# EAGLE library part MIC23451 (library pandaLight)
high-efficiency, 3 MHz, triple 2A, synchronous buck regulator
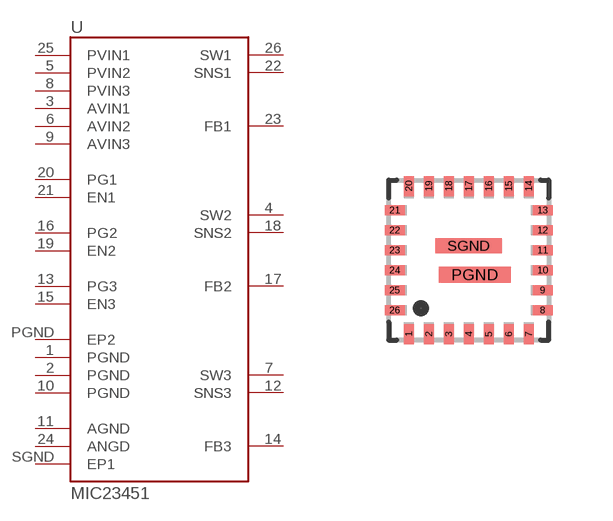
[diagram p5: symbol with the pads of QFN-26-4X4; footprint QFN-26-4X4]

Designator prefix -

## MIC23451AAAYFL  [QFN-26-4X4]
1  PGND  pwr
2  PGND  pwr
3  AVIN1  pwr
4  SW2  out
5  PVIN2  pwr
6  AVIN2  pwr
7  SW3  out
8  PVIN3  pwr
9  AVIN3  pwr
10  PGND  pwr
11  AGND  pwr
12  SNS3  in
13  PG3  in
14  FB3  out
15  EN3  in
16  PG2  in
17  FB2  out
18  SNS2  in
19  EN2  in
20  PG1  in
21  EN1  in
22  SNS1  in
23  FB1  out
24  ANGD  pwr
25  PVIN1  pwr
26  SW1  out
PGND  EP2  pwr
SGND  EP1  pwr

## Footprint QFN-26-4X4 (pad centres in mm)
smd 0.25 x 0.5: 1 -1.5,-1.85; 2 -1,-1.85; 3 -0.5,-1.85; 4 0,-1.85; 5 0.5,-1.85; 6 1,-1.85; 7 1.5,-1.85; 14 1.5,1.85; 15 1,1.85; 16 0.5,1.85; 17 0,1.85; 18 -0.5,1.85; 19 -1,1.85; 20 -1.5,1.85
smd 0.5 x 0.25: 8 1.85,-1.25; 9 1.85,-0.75; 10 1.85,-0.25; 11 1.85,0.25; 12 1.85,0.75; 13 1.85,1.25; 21 -1.85,1.25; 22 -1.85,0.75; 23 -1.85,0.25; 24 -1.85,-0.25; 25 -1.85,-0.75; 26 -1.85,-1.25
smd 1.8 x 0.4: PGND 0.15,-0.37
smd 1.67 x 0.38: SGND 0,0.36